# Altium schematic symbol library Trans.SchLib: 6 symbols
Pins are listed as number, name and electrical type; pins without a type are passive.

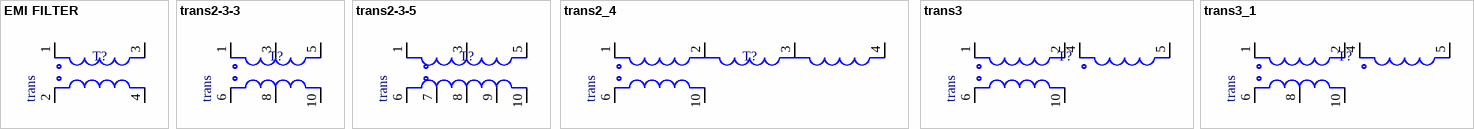
[diagram p0: symbols EMI FILTER to trans3_1]

## EMI FILTER
designator T?, comment trans
TROID; primary: *; secondary2: *; secondary1: *; core: *; VALU: trans
footprint TROID
pins: 1, 2, 3, 4

## trans2-3-3
designator T?, comment trans
trans3; primary: *; secondary2: *; secondary1: *; core: *; VALU: trans
footprint EE16*14-10pin
pins: 1, 3, 5, 6, 8, 10

## trans2-3-5
designator T?, comment trans
trans3; primary: *; secondary2: *; secondary1: *; core: *; VALU: trans
footprint EE16*14-10pin
pins: 1, 3, 5, 6, 7, 8, 9, 10

## trans2_4
designator T?, comment trans
trans2_4; primary: *; secondary2: *; secondary1: *; core: *; VALU: trans
footprint EE16*14-10pin
footprint EE10/11-8pin
footprint EE25*19-10pin
pins: 1, 2, 3, 4, 6, 10

## trans3
designator T?, comment trans
trans3; primary: *; secondary2: *; secondary1: *; core: *; VALU: trans
footprint EE16*14-10pin
footprint EE10/11-8pin
footprint EE25*19-10pin
pins: 1, 2, 4, 5, 6, 10

## trans3_1
designator T?, comment trans
trans3; primary: *; secondary2: *; secondary1: *; core: *; VALU: trans
footprint EE16*14-10pin
footprint EE10/11-8pin
pins: 1, 2, 4, 5, 6, 8, 10